# Altium schematic symbol library ESP32-HWE-Uno.SchLib: 4 symbols
Pins are listed as number, name and electrical type; pins without a type are passive.

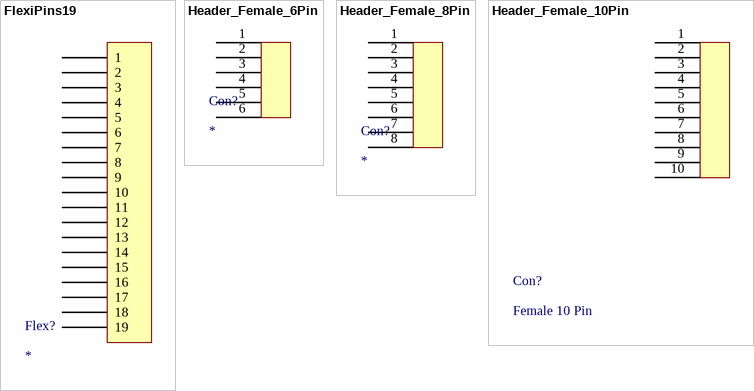
[diagram p0: symbols FlexiPins19 to Header_Female_10Pin]

## FlexiPins19
designator Flex?
footprint FlexiPins19
pins: 1, 2, 3, 4, 5, 6, 7, 8, 9, 10, 11, 12, 13, 14, 15, 16, 17, 18, 19

## Header_Female_6Pin
designator Con?
footprint Header_Female_6Pin
pins: 1, 2, 3, 4, 5, 6

## Header_Female_8Pin
designator Con?
footprint Header_Female_8Pin
pins: 1, 2, 3, 4, 5, 6, 7, 8

## Header_Female_10Pin
designator Con?, comment Female 10 Pin
footprint Header_Female_10Pin
pins: 1, 2, 3, 4, 5, 6, 7, 8, 9, 10